# Altium footprint library 0504_filter.PcbLib: 1 footprints
Each footprint in its own frame and in the unit in brackets; x right, y up, seen from the top. Pads: shape width x height; smd on the part's side, far side on the other; paste and mask are expansions set on the pad; w line width, h text height; cw(c..) or ccw(c..) is an arc to the next point about the centre after c.
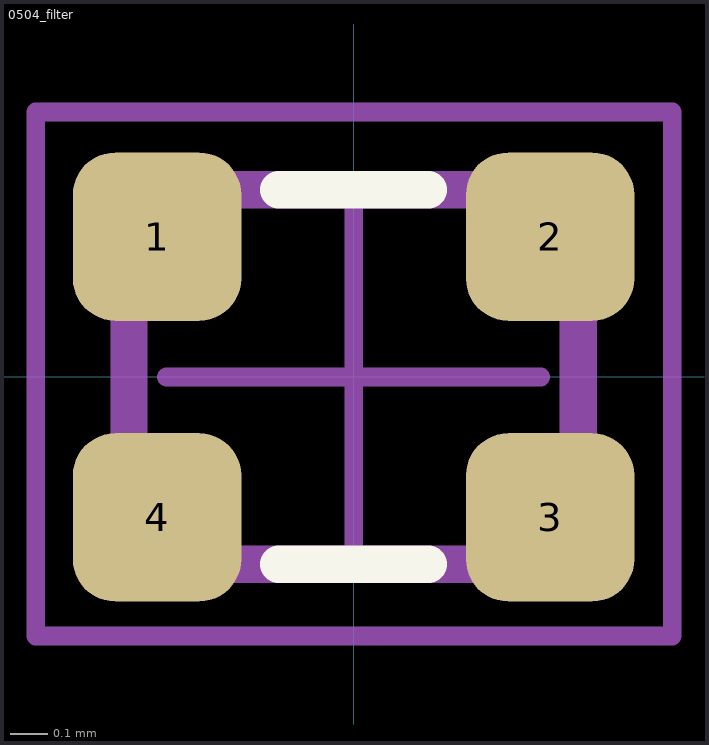
[diagram p0: the footprint, top view; thin cyan lines are the x and y axes]

## 0504_filter [mm]
pads (4):
  rrect50% 0.45x0.45 smd paste-0.01 mask+0.05: 1(-0.525,0.375) 2(0.525,0.375) 3(0.525,-0.375) 4(-0.525,-0.375)
Top Overlay:
  lines w0.1: -0.2,-0.5 0.2,-0.5 ; -0.2,0.5 0.2,0.5
Top Assembly:
  lines w0.1: -0.6,-0.5 -0.6,0.5 0.6,0.5 0.6,-0.5 -0.6,-0.5
Top Courtyard:
  lines w0.05: -0.5,0 0.5,0 ; 0,-0.5 0,0.5 ; -0.849,-0.692 -0.849,0.708 0.851,0.708 0.851,-0.692 -0.849,-0.692
3D body "7442335xxx_0504H.stp": height 0.9, standoff 0, extent -0.6,-0.5 0.6,0.5